# EAGLE library part REG_AOZ1280 (library akita)
Alpha&Omega Step-down Switching Regulator (adj) AOZ1280CI
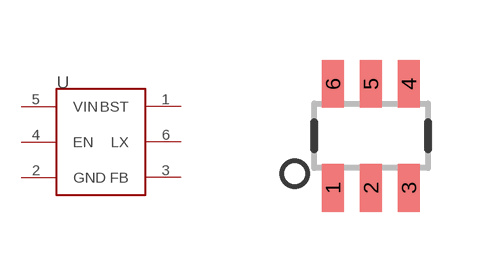
[diagram p27: symbol with the pads of SOT23-6; footprint SOT23-6]

Designator prefix U

## REG_AOZ1280  [SOT23-6]
1  BST
2  GND
3  FB
4  EN
5  VIN
6  LX

## Footprint SOT23-6 (pad centres in mm)
smd 0.55 x 1.2: 1 -0.95,-1.3; 2 0,-1.3; 3 0.95,-1.3; 4 0.95,1.3; 5 0,1.3; 6 -0.95,1.3